# Altium footprint library CONN_TBLOCK_5P08.PcbLib: 72 footprints (part 4 of 5)
Each footprint in its own frame and in the unit in brackets; x right, y up, seen from the top. Pads: shape width x height; smd on the part's side, far side on the other; paste and mask are expansions set on the pad; w line width, h text height; cw(c..) or ccw(c..) is an arc to the next point about the centre after c.
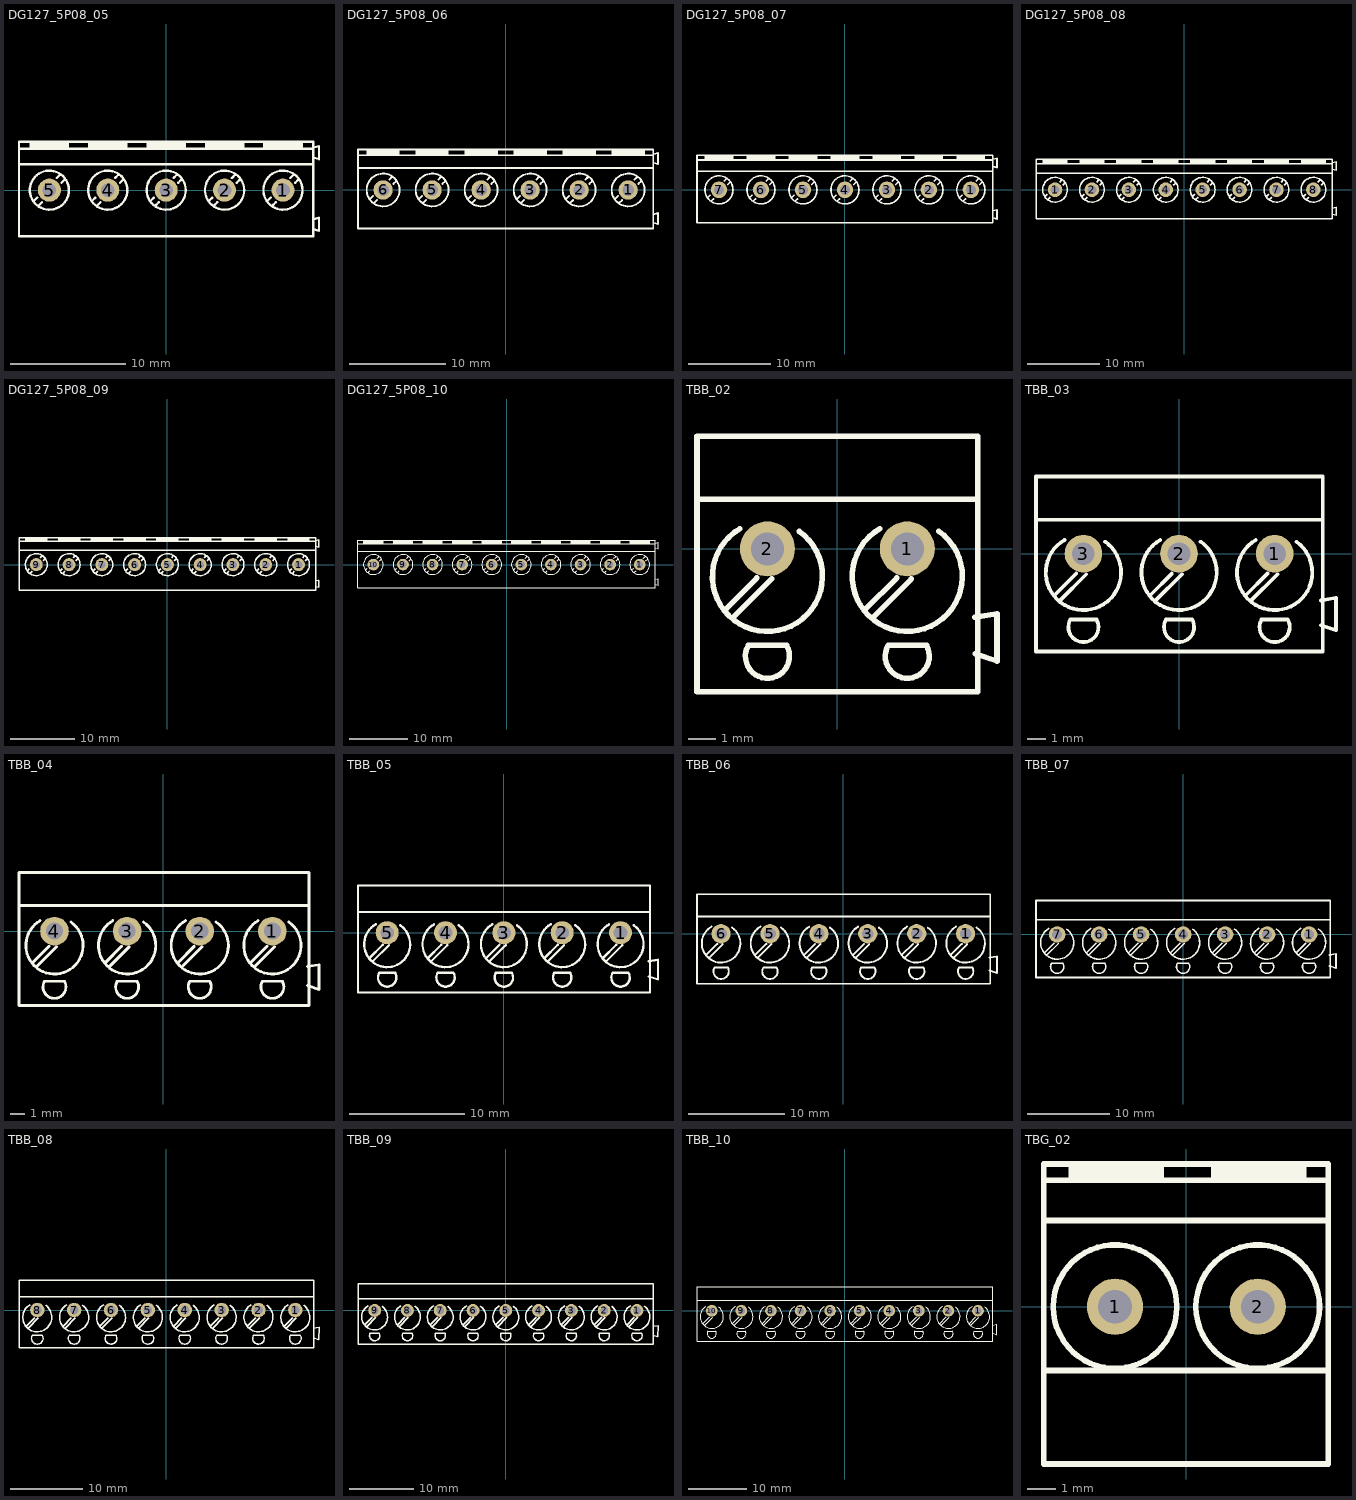
[diagram p3: the footprints below, top view; thin cyan lines are the x and y axes]

## DG127_5P08_05 [mm] "Terminal Block Screw, Pitch 5mm, H10mm, DG127-5.08-xxP"
height 10
pads (5):
  round 2 / inner round 2 / far side oval 2.4x3 hole 1.2: 1(10.16,0) 2(5.08,0) 3(0,0) 4(-5.08,0) 5(-10.16,0)
Top Overlay:
  circle w0.2: c-10.16,0 r1.7
  circle w0.2: c-5.08,0 r1.7
  circle w0.2: c0,0 r1.7
  circle w0.2: c5.08,0 r1.7
  circle w0.2: c10.16,0 r1.7
  region: -11.86,3.6 -11.86,4.2 -8.46,4.2 -8.46,3.6
  region: -6.78,3.6 -6.78,4.2 -3.38,4.2 -3.38,3.6
  region: -1.7,3.6 -1.7,4.2 1.7,4.2 1.7,3.6
  region: 3.38,3.6 3.38,4.2 6.78,4.2 6.78,3.6
  region: 8.46,3.6 8.46,4.2 11.86,4.2 11.86,3.6
  lines w0.2: -12.8,2.262 12.8,2.262 ; -12.8,3.6 12.8,3.6 ; -11.504,-0.919 -11.221,-0.636 ; -11.079,-1.344 -10.796,-1.061 ; -9.524,1.061 -9.241,1.343 ; -9.099,0.636 -8.817,0.919 ; -6.424,-0.919 -6.141,-0.636 ; -5.999,-1.344 -5.716,-1.061 ; -4.444,1.061 -4.161,1.343 ; -4.019,0.636 -3.737,0.919 ; -1.344,-0.919 -1.061,-0.636 ; -0.919,-1.344 -0.636,-1.061 ; 0.636,1.061 0.919,1.343 ; 1.061,0.636 1.343,0.919 ; 3.736,-0.919 4.019,-0.636 ; 4.161,-1.344 4.444,-1.061 ; 5.716,1.061 5.999,1.343 ; 6.141,0.636 6.423,0.919 ; 8.816,-0.919 9.099,-0.636 ; 9.241,-1.344 9.524,-1.061 ; 10.796,1.061 11.079,1.343 ; 11.221,0.636 11.503,0.919 ; 12.8,-3.4 13.294,-3.524 13.294,-2.4 12.8,-2.524 ; 12.8,2.824 13.294,2.7 13.294,3.824 12.8,3.7 ; -12.8,-4 -12.8,4.2 12.8,4.2 12.8,-4 -12.8,-4
3D body "DG127-5.08-05P.stp": height 10, standoff -3.9, extent -12.705,-3.975 13.195,4.125

## DG127_5P08_06 [mm] "Terminal Block Screw, Pitch 5mm, H10mm, DG127-5.08-xxP"
height 10
pads (6):
  round 2 / inner round 2 / far side oval 2.4x3 hole 1.2: 1(12.7,0) 2(7.62,0) 3(2.54,0) 4(-2.54,0) 5(-7.62,0) 6(-12.7,0)
Top Overlay:
  circle w0.2: c12.7,0 r1.7
  circle w0.2: c7.62,0 r1.7
  circle w0.2: c2.54,0 r1.7
  circle w0.2: c-2.54,0 r1.7
  circle w0.2: c-7.62,0 r1.7
  circle w0.2: c-12.7,0 r1.7
  region: 11,3.6 11,4.2 14.4,4.2 14.4,3.6
  region: 5.92,3.6 5.92,4.2 9.32,4.2 9.32,3.6
  region: 0.84,3.6 0.84,4.2 4.24,4.2 4.24,3.6
  region: -4.24,3.6 -4.24,4.2 -0.84,4.2 -0.84,3.6
  region: -9.32,3.6 -9.32,4.2 -5.92,4.2 -5.92,3.6
  region: -14.4,3.6 -14.4,4.2 -11,4.2 -11,3.6
  lines w0.2: -15.3,2.262 15.3,2.262 ; -15.3,3.6 15.3,3.6 ; -14.044,-0.919 -13.761,-0.636 ; -13.619,-1.344 -13.336,-1.061 ; -12.064,1.061 -11.781,1.343 ; -11.639,0.636 -11.357,0.919 ; -8.964,-0.919 -8.681,-0.636 ; -8.539,-1.344 -8.256,-1.061 ; -6.984,1.061 -6.701,1.343 ; -6.559,0.636 -6.277,0.919 ; -3.884,-0.919 -3.601,-0.636 ; -3.459,-1.344 -3.176,-1.061 ; -1.904,1.061 -1.621,1.343 ; -1.479,0.636 -1.197,0.919 ; 1.196,-0.919 1.479,-0.636 ; 1.621,-1.344 1.904,-1.061 ; 3.176,1.061 3.459,1.343 ; 3.601,0.636 3.883,0.919 ; 6.276,-0.919 6.559,-0.636 ; 6.701,-1.344 6.984,-1.061 ; 8.256,1.061 8.539,1.343 ; 8.681,0.636 8.963,0.919 ; 11.356,-0.919 11.639,-0.636 ; 11.781,-1.344 12.064,-1.061 ; 13.336,1.061 13.619,1.343 ; 13.761,0.636 14.043,0.919 ; 15.3,-3.4 15.794,-3.524 15.794,-2.4 15.3,-2.524 ; 15.3,2.824 15.794,2.7 15.794,3.824 15.3,3.7 ; -15.3,-4 15.3,-4 15.3,4.2 -15.3,4.2 -15.3,-4
3D body "DG127-5.08-06P.stp": height 10, standoff -3.9, extent -15.245,-3.975 15.735,4.125

## DG127_5P08_07 [mm] "Terminal Block Screw, Pitch 5mm, H10mm, DG127-5.08-xxP"
height 10
pads (7):
  round 2 / inner round 2 / far side oval 2.4x3 hole 1.2: 1(15.24,0) 2(10.16,0) 3(5.08,0) 4(0,0) 5(-5.08,0) 6(-10.16,0) 7(-15.24,0)
Top Overlay:
  circle w0.2: c-15.24,0 r1.7
  circle w0.2: c-10.16,0 r1.7
  circle w0.2: c-5.08,0 r1.7
  circle w0.2: c0,0 r1.7
  circle w0.2: c5.08,0 r1.7
  circle w0.2: c10.16,0 r1.7
  circle w0.2: c15.24,0 r1.7
  region: -16.94,3.6 -16.94,4.2 -13.54,4.2 -13.54,3.6
  region: -11.86,3.6 -11.86,4.2 -8.46,4.2 -8.46,3.6
  region: -6.78,3.6 -6.78,4.2 -3.38,4.2 -3.38,3.6
  region: -1.7,3.6 -1.7,4.2 1.7,4.2 1.7,3.6
  region: 3.38,3.6 3.38,4.2 6.78,4.2 6.78,3.6
  region: 8.46,3.6 8.46,4.2 11.86,4.2 11.86,3.6
  region: 13.54,3.6 13.54,4.2 16.94,4.2 16.94,3.6
  lines w0.2: -17.9,2.262 17.9,2.262 ; -17.9,3.6 17.9,3.6 ; -16.584,-0.919 -16.301,-0.636 ; -16.159,-1.344 -15.876,-1.061 ; -14.604,1.061 -14.321,1.343 ; -14.179,0.636 -13.897,0.919 ; -11.504,-0.919 -11.221,-0.636 ; -11.079,-1.344 -10.796,-1.061 ; -9.524,1.061 -9.241,1.343 ; -9.099,0.636 -8.817,0.919 ; -6.424,-0.919 -6.141,-0.636 ; -5.999,-1.344 -5.716,-1.061 ; -4.444,1.061 -4.161,1.343 ; -4.019,0.636 -3.737,0.919 ; -1.344,-0.919 -1.061,-0.636 ; -0.919,-1.344 -0.636,-1.061 ; 0.636,1.061 0.919,1.343 ; 1.061,0.636 1.343,0.919 ; 3.736,-0.919 4.019,-0.636 ; 4.161,-1.344 4.444,-1.061 ; 5.716,1.061 5.999,1.343 ; 6.141,0.636 6.423,0.919 ; 8.816,-0.919 9.099,-0.636 ; 9.241,-1.344 9.524,-1.061 ; 10.796,1.061 11.079,1.343 ; 11.221,0.636 11.503,0.919 ; 13.896,-0.919 14.179,-0.636 ; 14.321,-1.344 14.604,-1.061 ; 15.876,1.061 16.159,1.343 ; 16.301,0.636 16.583,0.919 ; 17.9,-3.4 18.394,-3.524 18.394,-2.4 17.9,-2.524 ; 17.9,2.824 18.394,2.7 18.394,3.824 17.9,3.7 ; -17.9,-4 -17.9,4.2 17.9,4.2 17.9,-4 -17.9,-4
3D body "DG127-5.08-07P.stp": height 10, standoff -3.9, extent -17.785,-3.975 18.275,4.125

## DG127_5P08_08 [mm] "Terminal Block Screw, Pitch 5mm, H10mm, DG127-5.08-xxP"
height 10
pads (8):
  round 2 / inner round 2 / far side oval 2.4x3 hole 1.2: 1(-17.78,0) 2(-12.7,0) 3(-7.62,0) 4(-2.54,0) 5(2.54,0) 6(7.62,0) 7(12.7,0) 8(17.78,0)
Top Overlay:
  circle w0.2: c17.78,0 r1.7
  circle w0.2: c12.7,0 r1.7
  circle w0.2: c7.62,0 r1.7
  circle w0.2: c2.54,0 r1.7
  circle w0.2: c-2.54,0 r1.7
  circle w0.2: c-7.62,0 r1.7
  circle w0.2: c-12.7,0 r1.7
  circle w0.2: c-17.78,0 r1.7
  region: 16.08,3.6 16.08,4.2 19.48,4.2 19.48,3.6
  region: 11,3.6 11,4.2 14.4,4.2 14.4,3.6
  region: 5.92,3.6 5.92,4.2 9.32,4.2 9.32,3.6
  region: 0.84,3.6 0.84,4.2 4.24,4.2 4.24,3.6
  region: -4.24,3.6 -4.24,4.2 -0.84,4.2 -0.84,3.6
  region: -9.32,3.6 -9.32,4.2 -5.92,4.2 -5.92,3.6
  region: -14.4,3.6 -14.4,4.2 -11,4.2 -11,3.6
  region: -19.48,3.6 -19.48,4.2 -16.08,4.2 -16.08,3.6
  lines w0.2: -20.4,2.262 20.4,2.262 ; -20.4,3.6 20.4,3.6 ; -19.124,-0.919 -18.841,-0.636 ; -18.699,-1.344 -18.416,-1.061 ; -17.144,1.061 -16.861,1.343 ; -16.719,0.636 -16.437,0.919 ; -14.044,-0.919 -13.761,-0.636 ; -13.619,-1.344 -13.336,-1.061 ; -12.064,1.061 -11.781,1.343 ; -11.639,0.636 -11.357,0.919 ; -8.964,-0.919 -8.681,-0.636 ; -8.539,-1.344 -8.256,-1.061 ; -6.984,1.061 -6.701,1.343 ; -6.559,0.636 -6.277,0.919 ; -3.884,-0.919 -3.601,-0.636 ; -3.459,-1.344 -3.176,-1.061 ; -1.904,1.061 -1.621,1.343 ; -1.479,0.636 -1.197,0.919 ; 1.196,-0.919 1.479,-0.636 ; 1.621,-1.344 1.904,-1.061 ; 3.176,1.061 3.459,1.343 ; 3.601,0.636 3.883,0.919 ; 6.276,-0.919 6.559,-0.636 ; 6.701,-1.344 6.984,-1.061 ; 8.256,1.061 8.539,1.343 ; 8.681,0.636 8.963,0.919 ; 11.356,-0.919 11.639,-0.636 ; 11.781,-1.344 12.064,-1.061 ; 13.336,1.061 13.619,1.343 ; 13.761,0.636 14.043,0.919 ; 16.436,-0.919 16.719,-0.636 ; 16.861,-1.344 17.144,-1.061 ; 18.416,1.061 18.699,1.343 ; 18.841,0.636 19.123,0.919 ; 20.4,-3.4 20.894,-3.524 20.894,-2.4 20.4,-2.524 ; 20.4,2.824 20.894,2.7 20.894,3.824 20.4,3.7 ; -20.4,-4 20.4,-4 20.4,4.2 -20.4,4.2 -20.4,-4
3D body "DG127-5.08-08P.stp": height 10, standoff -3.9, extent -20.325,-3.975 20.815,4.125

## DG127_5P08_09 [mm] "Terminal Block Screw, Pitch 5mm, H10mm, DG127-5.08-xxP"
height 10
pads (9):
  round 2 / inner round 2 / far side oval 2.4x3 hole 1.2: 1(20.32,0) 2(15.24,0) 3(10.16,0) 4(5.08,0) 5(0,0) 6(-5.08,0) 7(-10.16,0) 8(-15.24,0) 9(-20.32,0)
Top Overlay:
  circle w0.2: c20.32,0 r1.7
  circle w0.2: c15.24,0 r1.7
  circle w0.2: c10.16,0 r1.7
  circle w0.2: c5.08,0 r1.7
  circle w0.2: c0,0 r1.7
  circle w0.2: c-5.08,0 r1.7
  circle w0.2: c-10.16,0 r1.7
  circle w0.2: c-15.24,0 r1.7
  circle w0.2: c-20.32,0 r1.7
  region: 18.62,3.6 18.62,4.2 22.02,4.2 22.02,3.6
  region: 13.54,3.6 13.54,4.2 16.94,4.2 16.94,3.6
  region: 8.46,3.6 8.46,4.2 11.86,4.2 11.86,3.6
  region: 3.38,3.6 3.38,4.2 6.78,4.2 6.78,3.6
  region: -1.7,3.6 -1.7,4.2 1.7,4.2 1.7,3.6
  region: -6.78,3.6 -6.78,4.2 -3.38,4.2 -3.38,3.6
  region: -11.86,3.6 -11.86,4.2 -8.46,4.2 -8.46,3.6
  region: -16.94,3.6 -16.94,4.2 -13.54,4.2 -13.54,3.6
  region: -22.02,3.6 -22.02,4.2 -18.62,4.2 -18.62,3.6
  lines w0.2: -23,2.262 23,2.262 ; -23,3.6 23,3.6 ; -21.664,-0.919 -21.381,-0.636 ; -21.239,-1.344 -20.956,-1.061 ; -19.684,1.061 -19.401,1.343 ; -19.259,0.636 -18.977,0.919 ; -16.584,-0.919 -16.301,-0.636 ; -16.159,-1.344 -15.876,-1.061 ; -14.604,1.061 -14.321,1.343 ; -14.179,0.636 -13.897,0.919 ; -11.504,-0.919 -11.221,-0.636 ; -11.079,-1.344 -10.796,-1.061 ; -9.524,1.061 -9.241,1.343 ; -9.099,0.636 -8.817,0.919 ; -6.424,-0.919 -6.141,-0.636 ; -5.999,-1.344 -5.716,-1.061 ; -4.444,1.061 -4.161,1.343 ; -4.019,0.636 -3.737,0.919 ; -1.344,-0.919 -1.061,-0.636 ; -0.919,-1.344 -0.636,-1.061 ; 0.636,1.061 0.919,1.343 ; 1.061,0.636 1.343,0.919 ; 3.736,-0.919 4.019,-0.636 ; 4.161,-1.344 4.444,-1.061 ; 5.716,1.061 5.999,1.343 ; 6.141,0.636 6.423,0.919 ; 8.816,-0.919 9.099,-0.636 ; 9.241,-1.344 9.524,-1.061 ; 10.796,1.061 11.079,1.343 ; 11.221,0.636 11.503,0.919 ; 13.896,-0.919 14.179,-0.636 ; 14.321,-1.344 14.604,-1.061 ; 15.876,1.061 16.159,1.343 ; 16.301,0.636 16.583,0.919 ; 18.976,-0.919 19.259,-0.636 ; 19.401,-1.344 19.684,-1.061 ; 20.956,1.061 21.239,1.343 ; 21.381,0.636 21.663,0.919 ; 23,-3.4 23.494,-3.524 23.494,-2.4 23,-2.524 ; 23,2.824 23.494,2.7 23.494,3.824 23,3.7 ; -23,-4 23,-4 23,4.2 -23,4.2 -23,-4
3D body "DG127-5.08-05P.stp": height 10, standoff -3.9, extent -22.865,-3.975 3.035,4.125
3D body "DG127-5.08-04P.stp": height 10, standoff -3.9, extent 2.535,-3.975 23.355,4.125

## DG127_5P08_10 [mm] "Terminal Block Screw, Pitch 5mm, H10mm, DG127-5.08-xxP"
height 10
pads (10):
  round 2 / inner round 2 / far side oval 2.4x3 hole 1.2: 1(22.86,0) 2(17.78,0) 3(12.7,0) 4(7.62,0) 5(2.54,0) 6(-2.54,0) 7(-7.62,0) 8(-12.7,0) 9(-17.78,0) 10(-22.86,0)
Top Overlay:
  circle w0.2: c-22.86,0 r1.7
  circle w0.2: c-17.78,0 r1.7
  circle w0.2: c-12.7,0 r1.7
  circle w0.2: c-7.62,0 r1.7
  circle w0.2: c-2.54,0 r1.7
  circle w0.2: c2.54,0 r1.7
  circle w0.2: c7.62,0 r1.7
  circle w0.2: c12.7,0 r1.7
  circle w0.2: c17.78,0 r1.7
  circle w0.2: c22.86,0 r1.7
  region: -24.56,3.6 -24.56,4.2 -21.16,4.2 -21.16,3.6
  region: -19.48,3.6 -19.48,4.2 -16.08,4.2 -16.08,3.6
  region: -14.4,3.6 -14.4,4.2 -11,4.2 -11,3.6
  region: -9.32,3.6 -9.32,4.2 -5.92,4.2 -5.92,3.6
  region: -4.24,3.6 -4.24,4.2 -0.84,4.2 -0.84,3.6
  region: 0.84,3.6 0.84,4.2 4.24,4.2 4.24,3.6
  region: 5.92,3.6 5.92,4.2 9.32,4.2 9.32,3.6
  region: 11,3.6 11,4.2 14.4,4.2 14.4,3.6
  region: 16.08,3.6 16.08,4.2 19.48,4.2 19.48,3.6
  region: 21.16,3.6 21.16,4.2 24.56,4.2 24.56,3.6
  lines w0.2: -25.5,2.262 25.5,2.262 ; -25.5,3.6 25.5,3.6 ; -24.204,-0.919 -23.921,-0.636 ; -23.779,-1.344 -23.496,-1.061 ; -22.224,1.061 -21.941,1.343 ; -21.799,0.636 -21.517,0.919 ; -19.124,-0.919 -18.841,-0.636 ; -18.699,-1.344 -18.416,-1.061 ; -17.144,1.061 -16.861,1.343 ; -16.719,0.636 -16.437,0.919 ; -14.044,-0.919 -13.761,-0.636 ; -13.619,-1.344 -13.336,-1.061 ; -12.064,1.061 -11.781,1.343 ; -11.639,0.636 -11.357,0.919 ; -8.964,-0.919 -8.681,-0.636 ; -8.539,-1.344 -8.256,-1.061 ; -6.984,1.061 -6.701,1.343 ; -6.559,0.636 -6.277,0.919 ; -3.884,-0.919 -3.601,-0.636 ; -3.459,-1.344 -3.176,-1.061 ; -1.904,1.061 -1.621,1.343 ; -1.479,0.636 -1.197,0.919 ; 1.196,-0.919 1.479,-0.636 ; 1.621,-1.344 1.904,-1.061 ; 3.176,1.061 3.459,1.343 ; 3.601,0.636 3.883,0.919 ; 6.276,-0.919 6.559,-0.636 ; 6.701,-1.344 6.984,-1.061 ; 8.256,1.061 8.539,1.343 ; 8.681,0.636 8.963,0.919 ; 11.356,-0.919 11.639,-0.636 ; 11.781,-1.344 12.064,-1.061 ; 13.336,1.061 13.619,1.343 ; 13.761,0.636 14.043,0.919 ; 16.436,-0.919 16.719,-0.636 ; 16.861,-1.344 17.144,-1.061 ; 18.416,1.061 18.699,1.343 ; 18.841,0.636 19.123,0.919 ; 21.516,-0.919 21.799,-0.636 ; 21.941,-1.344 22.224,-1.061 ; 23.496,1.061 23.779,1.343 ; 23.921,0.636 24.203,0.919 ; 25.5,-3.4 25.994,-3.524 25.994,-2.4 25.5,-2.524 ; 25.5,2.824 25.994,2.7 25.994,3.824 25.5,3.7 ; -25.5,-4 -25.5,4.2 25.5,4.2 25.5,-4 -25.5,-4
3D body "DG127-5.08-10P.stp": height 10, standoff -3.9, extent -25.405,-3.975 25.895,4.125

## TBB_02 [mm] "Terminal Block Blue"
pads (2):
  round 2 / inner round 2 / far side rect 2.4x3 hole 1.2: 1(2.54,0)
  round 2 / inner round 2 / far side oval 2.4x3 hole 1.2: 2(-2.54,0)
Top Overlay:
  lines w0.2: -5.1,1.8 5.1,1.8 ; -4.071,-2.209 -2.921,-1.059 ; -3.789,-2.491 -2.389,-1.091 ; -3.54,0.732 ccw(c-2.54,-1) -1.393,0.638 ; -3.24,-3.5 -1.84,-3.5 ; -3.233,-3.5 ccw(c-2.54,-3.9) -1.847,-3.5 ; 1.009,-2.209 2.159,-1.059 ; 1.291,-2.491 2.691,-1.091 ; 1.54,0.732 ccw(c2.54,-1) 3.687,0.638 ; 1.84,-3.5 3.24,-3.5 ; 1.847,-3.5 ccw(c2.54,-3.9) 3.233,-3.5 ; 4.995,-2.484 5.8,-2.35 5.8,-4.075 5.004,-3.81 ; -5.1,-5.2 -5.1,4.1 5.1,4.1 5.1,-5.2 -5.1,-5.2
3D body "Socket Blue_2Pin.STEP": height 12.52, standoff -6.68, extent -4.965,-5.08 5.777,3.988

## TBB_03 [mm] "Terminal Block Blue"
pads (3):
  round 2 / inner round 2 / far side rect 2.4x3 hole 1.2: 1(5.08,0)
  round 2 / inner round 2 / far side oval 2.4x3 hole 1.2: 2(0,0) 3(-5.08,0)
Top Overlay:
  lines w0.2: -7.6,1.8 7.64,1.8 ; -6.611,-2.209 -5.461,-1.059 ; -6.329,-2.491 -4.929,-1.091 ; -6.08,0.732 ccw(c-5.08,-1) -3.933,0.638 ; -5.78,-3.5 -4.38,-3.5 ; -5.773,-3.5 ccw(c-5.08,-3.9) -4.387,-3.5 ; -1.531,-2.209 -0.381,-1.059 ; -1.249,-2.491 0.151,-1.091 ; -1,0.732 ccw(c0,-1) 1.147,0.638 ; -0.7,-3.5 0.7,-3.5 ; -0.693,-3.5 ccw(c0,-3.9) 0.693,-3.5 ; 3.549,-2.209 4.699,-1.059 ; 3.831,-2.491 5.231,-1.091 ; 4.08,0.732 ccw(c5.08,-1) 6.227,0.638 ; 4.38,-3.5 5.78,-3.5 ; 4.387,-3.5 ccw(c5.08,-3.9) 5.773,-3.5 ; 7.535,-2.484 8.34,-2.35 8.34,-4.075 7.544,-3.81 ; -7.6,-5.2 7.64,-5.2 7.64,4.1 -7.6,4.1 -7.6,-5.2
3D body "Socket Blue_3Pin.STEP": height 12.78, standoff -6.43, extent -7.494,-5.069 8.328,3.999

## TBB_04 [mm] "Terminal Block Blue"
pads (4):
  round 2 / inner round 2 / far side rect 2.4x3 hole 1.2: 1(7.62,0)
  round 2 / inner round 2 / far side oval 2.4x3 hole 1.2: 2(2.54,0) 3(-2.54,0) 4(-7.62,0)
Top Overlay:
  lines w0.2: -10.1,1.8 10.18,1.8 ; -9.151,-2.209 -8.001,-1.059 ; -8.869,-2.491 -7.469,-1.091 ; -8.62,0.732 ccw(c-7.62,-1) -6.473,0.638 ; -8.32,-3.5 -6.92,-3.5 ; -8.313,-3.5 ccw(c-7.62,-3.9) -6.927,-3.5 ; -4.071,-2.209 -2.921,-1.059 ; -3.789,-2.491 -2.389,-1.091 ; -3.54,0.732 ccw(c-2.54,-1) -1.393,0.638 ; -3.24,-3.5 -1.84,-3.5 ; -3.233,-3.5 ccw(c-2.54,-3.9) -1.847,-3.5 ; 1.009,-2.209 2.159,-1.059 ; 1.291,-2.491 2.691,-1.091 ; 1.54,0.732 ccw(c2.54,-1) 3.687,0.638 ; 1.84,-3.5 3.24,-3.5 ; 1.847,-3.5 ccw(c2.54,-3.9) 3.233,-3.5 ; 6.089,-2.209 7.239,-1.059 ; 6.371,-2.491 7.771,-1.091 ; 6.62,0.732 ccw(c7.62,-1) 8.767,0.638 ; 6.92,-3.5 8.32,-3.5 ; 6.927,-3.5 ccw(c7.62,-3.9) 8.313,-3.5 ; 10.075,-2.484 10.88,-2.35 10.88,-4.075 10.084,-3.81 ; -10.1,-5.2 10.18,-5.2 10.18,4.1 -10.1,4.1 -10.1,-5.2
3D body "Socket Blue_4Pin.STEP": height 12.52, standoff -6.68, extent -10.031,-5.029 10.871,4.039

## TBB_05 [mm] "Terminal Block Blue"
pads (5):
  round 2 / inner round 2 / far side rect 2.4x3 hole 1.2: 1(10.16,0)
  round 2 / inner round 2 / far side oval 2.4x3 hole 1.2: 2(5.08,0) 3(0,0) 4(-5.08,0) 5(-10.16,0)
Top Overlay:
  lines w0.2: -12.7,1.8 12.72,1.8 ; -11.691,-2.209 -10.541,-1.059 ; -11.409,-2.491 -10.009,-1.091 ; -11.16,0.732 ccw(c-10.16,-1) -9.013,0.638 ; -10.86,-3.5 -9.46,-3.5 ; -10.853,-3.5 ccw(c-10.16,-3.9) -9.467,-3.5 ; -6.611,-2.209 -5.461,-1.059 ; -6.329,-2.491 -4.929,-1.091 ; -6.08,0.732 ccw(c-5.08,-1) -3.933,0.638 ; -5.78,-3.5 -4.38,-3.5 ; -5.773,-3.5 ccw(c-5.08,-3.9) -4.387,-3.5 ; -1.531,-2.209 -0.381,-1.059 ; -1.249,-2.491 0.151,-1.091 ; -1,0.732 ccw(c0,-1) 1.147,0.638 ; -0.7,-3.5 0.7,-3.5 ; -0.693,-3.5 ccw(c0,-3.9) 0.693,-3.5 ; 3.549,-2.209 4.699,-1.059 ; 3.831,-2.491 5.231,-1.091 ; 4.08,0.732 ccw(c5.08,-1) 6.227,0.638 ; 4.38,-3.5 5.78,-3.5 ; 4.387,-3.5 ccw(c5.08,-3.9) 5.773,-3.5 ; 8.629,-2.209 9.779,-1.059 ; 8.911,-2.491 10.311,-1.091 ; 9.16,0.732 ccw(c10.16,-1) 11.307,0.638 ; 9.46,-3.5 10.86,-3.5 ; 9.467,-3.5 ccw(c10.16,-3.9) 10.853,-3.5 ; 12.615,-2.484 13.42,-2.35 13.42,-4.075 12.624,-3.81 ; -12.7,-5.2 -12.7,4.1 12.72,4.1 12.72,-5.2 -12.7,-5.2
3D body "Socket Blue_5Pin.STEP": height 12.52, standoff -6.68, extent -12.647,-5.042 13.335,4.026

## TBB_06 [mm] "Terminal Block Blue"
pads (6):
  round 2 / inner round 2 / far side rect 2.4x3 hole 1.2: 1(12.7,0)
  round 2 / inner round 2 / far side oval 2.4x3 hole 1.2: 2(7.62,0) 3(2.54,0) 4(-2.54,0) 5(-7.62,0) 6(-12.7,0)
Top Overlay:
  lines w0.2: -15.2,1.8 15.26,1.8 ; -14.231,-2.209 -13.081,-1.059 ; -13.949,-2.491 -12.549,-1.091 ; -13.7,0.732 ccw(c-12.7,-1) -11.553,0.638 ; -13.4,-3.5 -12,-3.5 ; -13.393,-3.5 ccw(c-12.7,-3.9) -12.007,-3.5 ; -9.151,-2.209 -8.001,-1.059 ; -8.869,-2.491 -7.469,-1.091 ; -8.62,0.732 ccw(c-7.62,-1) -6.473,0.638 ; -8.32,-3.5 -6.92,-3.5 ; -8.313,-3.5 ccw(c-7.62,-3.9) -6.927,-3.5 ; -4.071,-2.209 -2.921,-1.059 ; -3.789,-2.491 -2.389,-1.091 ; -3.54,0.732 ccw(c-2.54,-1) -1.393,0.638 ; -3.24,-3.5 -1.84,-3.5 ; -3.233,-3.5 ccw(c-2.54,-3.9) -1.847,-3.5 ; 1.009,-2.209 2.159,-1.059 ; 1.291,-2.491 2.691,-1.091 ; 1.54,0.732 ccw(c2.54,-1) 3.687,0.638 ; 1.84,-3.5 3.24,-3.5 ; 1.847,-3.5 ccw(c2.54,-3.9) 3.233,-3.5 ; 6.089,-2.209 7.239,-1.059 ; 6.371,-2.491 7.771,-1.091 ; 6.62,0.732 ccw(c7.62,-1) 8.767,0.638 ; 6.92,-3.5 8.32,-3.5 ; 6.927,-3.5 ccw(c7.62,-3.9) 8.313,-3.5 ; 11.169,-2.209 12.319,-1.059 ; 11.451,-2.491 12.851,-1.091 ; 11.7,0.732 ccw(c12.7,-1) 13.847,0.638 ; 12,-3.5 13.4,-3.5 ; 12.007,-3.5 ccw(c12.7,-3.9) 13.393,-3.5 ; 15.155,-2.484 15.96,-2.35 15.96,-4.075 15.164,-3.81 ; -15.2,-5.2 15.26,-5.2 15.26,4.1 -15.2,4.1 -15.2,-5.2
3D body "Socket Blue_6Pin.STEP": height 12.52, standoff -6.68, extent -15.138,-5.029 15.924,4.039

## TBB_07 [mm] "Terminal Block Blue"
pads (7):
  round 2 / inner round 2 / far side rect 2.4x3 hole 1.2: 1(15.24,0)
  round 2 / inner round 2 / far side oval 2.4x3 hole 1.2: 2(10.16,0) 3(5.08,0) 4(0,0) 5(-5.08,0) 6(-10.16,0) 7(-15.24,0)
Top Overlay:
  lines w0.2: -17.8,1.8 17.8,1.8 ; -16.771,-2.209 -15.621,-1.059 ; -16.489,-2.491 -15.089,-1.091 ; -16.24,0.732 ccw(c-15.24,-1) -14.093,0.638 ; -15.94,-3.5 -14.54,-3.5 ; -15.933,-3.5 ccw(c-15.24,-3.9) -14.547,-3.5 ; -11.691,-2.209 -10.541,-1.059 ; -11.409,-2.491 -10.009,-1.091 ; -11.16,0.732 ccw(c-10.16,-1) -9.013,0.638 ; -10.86,-3.5 -9.46,-3.5 ; -10.853,-3.5 ccw(c-10.16,-3.9) -9.467,-3.5 ; -6.611,-2.209 -5.461,-1.059 ; -6.329,-2.491 -4.929,-1.091 ; -6.08,0.732 ccw(c-5.08,-1) -3.933,0.638 ; -5.78,-3.5 -4.38,-3.5 ; -5.773,-3.5 ccw(c-5.08,-3.9) -4.387,-3.5 ; -1.531,-2.209 -0.381,-1.059 ; -1.249,-2.491 0.151,-1.091 ; -1,0.732 ccw(c0,-1) 1.147,0.638 ; -0.7,-3.5 0.7,-3.5 ; -0.693,-3.5 ccw(c0,-3.9) 0.693,-3.5 ; 3.549,-2.209 4.699,-1.059 ; 3.831,-2.491 5.231,-1.091 ; 4.08,0.732 ccw(c5.08,-1) 6.227,0.638 ; 4.38,-3.5 5.78,-3.5 ; 4.387,-3.5 ccw(c5.08,-3.9) 5.773,-3.5 ; 8.629,-2.209 9.779,-1.059 ; 8.911,-2.491 10.311,-1.091 ; 9.16,0.732 ccw(c10.16,-1) 11.307,0.638 ; 9.46,-3.5 10.86,-3.5 ; 9.467,-3.5 ccw(c10.16,-3.9) 10.853,-3.5 ; 13.709,-2.209 14.859,-1.059 ; 13.991,-2.491 15.391,-1.091 ; 14.24,0.732 ccw(c15.24,-1) 16.387,0.638 ; 14.54,-3.5 15.94,-3.5 ; 14.547,-3.5 ccw(c15.24,-3.9) 15.933,-3.5 ; 17.695,-2.484 18.5,-2.35 18.5,-4.075 17.704,-3.81 ; -17.8,-5.2 17.8,-5.2 17.8,4.1 -17.8,4.1 -17.8,-5.2
3D body "Socket Blue_7Pin.STEP": height 12.52, standoff -6.68, extent -17.685,-5.025 18.457,4.042

## TBB_08 [mm] "Terminal Block Blue"
pads (8):
  round 2 / inner round 2 / far side rect 2.4x3 hole 1.2: 1(17.78,0)
  round 2 / inner round 2 / far side oval 2.4x3 hole 1.2: 2(12.7,0) 3(7.62,0) 4(2.54,0) 5(-2.54,0) 6(-7.62,0) 7(-12.7,0) 8(-17.78,0)
Top Overlay:
  lines w0.2: -20.3,1.8 20.34,1.8 ; -19.311,-2.209 -18.161,-1.059 ; -19.029,-2.491 -17.629,-1.091 ; -18.78,0.732 ccw(c-17.78,-1) -16.633,0.638 ; -18.48,-3.5 -17.08,-3.5 ; -18.473,-3.5 ccw(c-17.78,-3.9) -17.087,-3.5 ; -14.231,-2.209 -13.081,-1.059 ; -13.949,-2.491 -12.549,-1.091 ; -13.7,0.732 ccw(c-12.7,-1) -11.553,0.638 ; -13.4,-3.5 -12,-3.5 ; -13.393,-3.5 ccw(c-12.7,-3.9) -12.007,-3.5 ; -9.151,-2.209 -8.001,-1.059 ; -8.869,-2.491 -7.469,-1.091 ; -8.62,0.732 ccw(c-7.62,-1) -6.473,0.638 ; -8.32,-3.5 -6.92,-3.5 ; -8.313,-3.5 ccw(c-7.62,-3.9) -6.927,-3.5 ; -4.071,-2.209 -2.921,-1.059 ; -3.789,-2.491 -2.389,-1.091 ; -3.54,0.732 ccw(c-2.54,-1) -1.393,0.638 ; -3.24,-3.5 -1.84,-3.5 ; -3.233,-3.5 ccw(c-2.54,-3.9) -1.847,-3.5 ; 1.009,-2.209 2.159,-1.059 ; 1.291,-2.491 2.691,-1.091 ; 1.54,0.732 ccw(c2.54,-1) 3.687,0.638 ; 1.84,-3.5 3.24,-3.5 ; 1.847,-3.5 ccw(c2.54,-3.9) 3.233,-3.5 ; 6.089,-2.209 7.239,-1.059 ; 6.371,-2.491 7.771,-1.091 ; 6.62,0.732 ccw(c7.62,-1) 8.767,0.638 ; 6.92,-3.5 8.32,-3.5 ; 6.927,-3.5 ccw(c7.62,-3.9) 8.313,-3.5 ; 11.169,-2.209 12.319,-1.059 ; 11.451,-2.491 12.851,-1.091 ; 11.7,0.732 ccw(c12.7,-1) 13.847,0.638 ; 12,-3.5 13.4,-3.5 ; 12.007,-3.5 ccw(c12.7,-3.9) 13.393,-3.5 ; 16.249,-2.209 17.399,-1.059 ; 16.531,-2.491 17.931,-1.091 ; 16.78,0.732 ccw(c17.78,-1) 18.927,0.638 ; 17.08,-3.5 18.48,-3.5 ; 17.087,-3.5 ccw(c17.78,-3.9) 18.473,-3.5 ; 20.235,-2.484 21.04,-2.35 21.04,-4.075 20.244,-3.81 ; -20.3,-5.2 20.34,-5.2 20.34,4.1 -20.3,4.1 -20.3,-5.2
3D body "Socket Blue_8Pin.STEP": height 12.52, standoff -6.68, extent -20.216,-5.017 21.006,4.051

## TBB_09 [mm] "Terminal Block Blue"
pads (9):
  round 2 / inner round 2 / far side rect 2.4x3 hole 1.2: 1(20.32,0)
  round 2 / inner round 2 / far side oval 2.4x3 hole 1.2: 2(15.24,0) 3(10.16,0) 4(5.08,0) 5(0,0) 6(-5.08,0) 7(-10.16,0) 8(-15.24,0) 9(-20.32,0)
Top Overlay:
  lines w0.2: -22.9,1.8 22.88,1.8 ; -21.851,-2.209 -20.701,-1.059 ; -21.569,-2.491 -20.169,-1.091 ; -21.32,0.732 ccw(c-20.32,-1) -19.173,0.638 ; -21.02,-3.5 -19.62,-3.5 ; -21.013,-3.5 ccw(c-20.32,-3.9) -19.627,-3.5 ; -16.771,-2.209 -15.621,-1.059 ; -16.489,-2.491 -15.089,-1.091 ; -16.24,0.732 ccw(c-15.24,-1) -14.093,0.638 ; -15.94,-3.5 -14.54,-3.5 ; -15.933,-3.5 ccw(c-15.24,-3.9) -14.547,-3.5 ; -11.691,-2.209 -10.541,-1.059 ; -11.409,-2.491 -10.009,-1.091 ; -11.16,0.732 ccw(c-10.16,-1) -9.013,0.638 ; -10.86,-3.5 -9.46,-3.5 ; -10.853,-3.5 ccw(c-10.16,-3.9) -9.467,-3.5 ; -6.611,-2.209 -5.461,-1.059 ; -6.329,-2.491 -4.929,-1.091 ; -6.08,0.732 ccw(c-5.08,-1) -3.933,0.638 ; -5.78,-3.5 -4.38,-3.5 ; -5.773,-3.5 ccw(c-5.08,-3.9) -4.387,-3.5 ; -1.531,-2.209 -0.381,-1.059 ; -1.249,-2.491 0.151,-1.091 ; -1,0.732 ccw(c0,-1) 1.147,0.638 ; -0.7,-3.5 0.7,-3.5 ; -0.693,-3.5 ccw(c0,-3.9) 0.693,-3.5 ; 3.549,-2.209 4.699,-1.059 ; 3.831,-2.491 5.231,-1.091 ; 4.08,0.732 ccw(c5.08,-1) 6.227,0.638 ; 4.38,-3.5 5.78,-3.5 ; 4.387,-3.5 ccw(c5.08,-3.9) 5.773,-3.5 ; 8.629,-2.209 9.779,-1.059 ; 8.911,-2.491 10.311,-1.091 ; 9.16,0.732 ccw(c10.16,-1) 11.307,0.638 ; 9.46,-3.5 10.86,-3.5 ; 9.467,-3.5 ccw(c10.16,-3.9) 10.853,-3.5 ; 13.709,-2.209 14.859,-1.059 ; 13.991,-2.491 15.391,-1.091 ; 14.24,0.732 ccw(c15.24,-1) 16.387,0.638 ; 14.54,-3.5 15.94,-3.5 ; 14.547,-3.5 ccw(c15.24,-3.9) 15.933,-3.5 ; 18.789,-2.209 19.939,-1.059 ; 19.071,-2.491 20.471,-1.091 ; 19.32,0.732 ccw(c20.32,-1) 21.467,0.638 ; 19.62,-3.5 21.02,-3.5 ; 19.627,-3.5 ccw(c20.32,-3.9) 21.013,-3.5 ; 22.775,-2.484 23.58,-2.35 23.58,-4.075 22.784,-3.81 ; -22.9,-5.2 -22.9,4.1 22.88,4.1 22.88,-5.2 -22.9,-5.2
3D body "Socket Blue_9Pin.STEP": height 12.52, standoff -6.68, extent -22.758,-5.055 23.544,4.013

## TBB_10 [mm] "Terminal Block Blue"
pads (10):
  round 2 / inner round 2 / far side rect 2.4x3 hole 1.2: 1(22.86,0)
  round 2 / inner round 2 / far side oval 2.4x3 hole 1.2: 2(17.78,0) 3(12.7,0) 4(7.62,0) 5(2.54,0) 6(-2.54,0) 7(-7.62,0) 8(-12.7,0) 9(-17.78,0) 10(-22.86,0)
Top Overlay:
  lines w0.2: -25.4,1.8 25.42,1.8 ; -24.391,-2.209 -23.241,-1.059 ; -24.109,-2.491 -22.709,-1.091 ; -23.86,0.732 ccw(c-22.86,-1) -21.713,0.638 ; -23.56,-3.5 -22.16,-3.5 ; -23.553,-3.5 ccw(c-22.86,-3.9) -22.167,-3.5 ; -19.311,-2.209 -18.161,-1.059 ; -19.029,-2.491 -17.629,-1.091 ; -18.78,0.732 ccw(c-17.78,-1) -16.633,0.638 ; -18.48,-3.5 -17.08,-3.5 ; -18.473,-3.5 ccw(c-17.78,-3.9) -17.087,-3.5 ; -14.231,-2.209 -13.081,-1.059 ; -13.949,-2.491 -12.549,-1.091 ; -13.7,0.732 ccw(c-12.7,-1) -11.553,0.638 ; -13.4,-3.5 -12,-3.5 ; -13.393,-3.5 ccw(c-12.7,-3.9) -12.007,-3.5 ; -9.151,-2.209 -8.001,-1.059 ; -8.869,-2.491 -7.469,-1.091 ; -8.62,0.732 ccw(c-7.62,-1) -6.473,0.638 ; -8.32,-3.5 -6.92,-3.5 ; -8.313,-3.5 ccw(c-7.62,-3.9) -6.927,-3.5 ; -4.071,-2.209 -2.921,-1.059 ; -3.789,-2.491 -2.389,-1.091 ; -3.54,0.732 ccw(c-2.54,-1) -1.393,0.638 ; -3.24,-3.5 -1.84,-3.5 ; -3.233,-3.5 ccw(c-2.54,-3.9) -1.847,-3.5 ; 1.009,-2.209 2.159,-1.059 ; 1.291,-2.491 2.691,-1.091 ; 1.54,0.732 ccw(c2.54,-1) 3.687,0.638 ; 1.84,-3.5 3.24,-3.5 ; 1.847,-3.5 ccw(c2.54,-3.9) 3.233,-3.5 ; 6.089,-2.209 7.239,-1.059 ; 6.371,-2.491 7.771,-1.091 ; 6.62,0.732 ccw(c7.62,-1) 8.767,0.638 ; 6.92,-3.5 8.32,-3.5 ; 6.927,-3.5 ccw(c7.62,-3.9) 8.313,-3.5 ; 11.169,-2.209 12.319,-1.059 ; 11.451,-2.491 12.851,-1.091 ; 11.7,0.732 ccw(c12.7,-1) 13.847,0.638 ; 12,-3.5 13.4,-3.5 ; 12.007,-3.5 ccw(c12.7,-3.9) 13.393,-3.5 ; 16.249,-2.209 17.399,-1.059 ; 16.531,-2.491 17.931,-1.091 ; 16.78,0.732 ccw(c17.78,-1) 18.927,0.638 ; 17.08,-3.5 18.48,-3.5 ; 17.087,-3.5 ccw(c17.78,-3.9) 18.473,-3.5 ; 21.329,-2.209 22.479,-1.059 ; 21.611,-2.491 23.011,-1.091 ; 21.86,0.732 ccw(c22.86,-1) 24.007,0.638 ; 22.16,-3.5 23.56,-3.5 ; 22.167,-3.5 ccw(c22.86,-3.9) 23.553,-3.5 ; 25.315,-2.484 26.12,-2.35 26.12,-4.075 25.324,-3.81 ; -25.4,-5.2 25.42,-5.2 25.42,4.1 -25.4,4.1 -25.4,-5.2
3D body "Socket Blue_10Pin.STEP": height 12.52, standoff -6.68, extent -25.298,-4.991 26.086,4.077

## TBG_02 [mm] "Terminal Block Green"
pads (2):
  round 2 / inner round 2 / far side oval 2.4x3 hole 1.2: 1(-2.54,0) 2(2.54,0)
Top Overlay:
  circle w0.2: c2.54,0 r2.2
  circle w0.2: c-2.54,0 r2.2
  rectangle: 0.88,4.5 4.28,5.08
  rectangle: -4.2,4.5 -0.8,5.08
  lines w0.2: -5.08,-2.27 5.055,-2.27 ; -5.08,3.07 5.055,3.07 ; -5.08,4.5 5.055,4.5 ; -5.08,-5.6 -5.08,5.08 5.055,5.08 5.055,-5.6 -5.08,-5.6
3D body "User Library-klema-5mm-2pin.step": height 14, standoff -4, extent -5,-5.5 5,5